# EAGLE library part TPS62825 (library vikc-ic)
The TPS6282x is an ease-to-use synchronous step down DC-DC converters family with a very low quiescent current of only 4 μA. Based on the DCS Control topology, it provides a fast transient response.
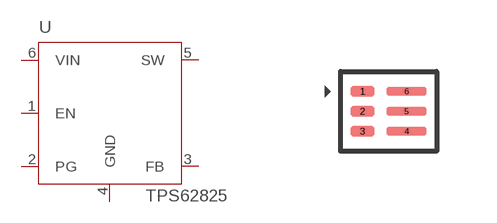
[diagram p19: symbol with the pads of TPS62825; footprint TPS62825]

Designator prefix U

## TPS62825  [TPS62825]
1  EN
2  PG
3  FB
4  GND
5  SW
6  VIN

## Footprint TPS62825 (pad centres in mm)
smd 0.6 x 0.25: 1 -0.65,0.5; 2 -0.65,0; 3 -0.65,-0.5
smd 1 x 0.2: 4 0.45,-0.5; 5 0.45,0; 6 0.45,0.5